# EAGLE library part USB5826 (library Microchip)
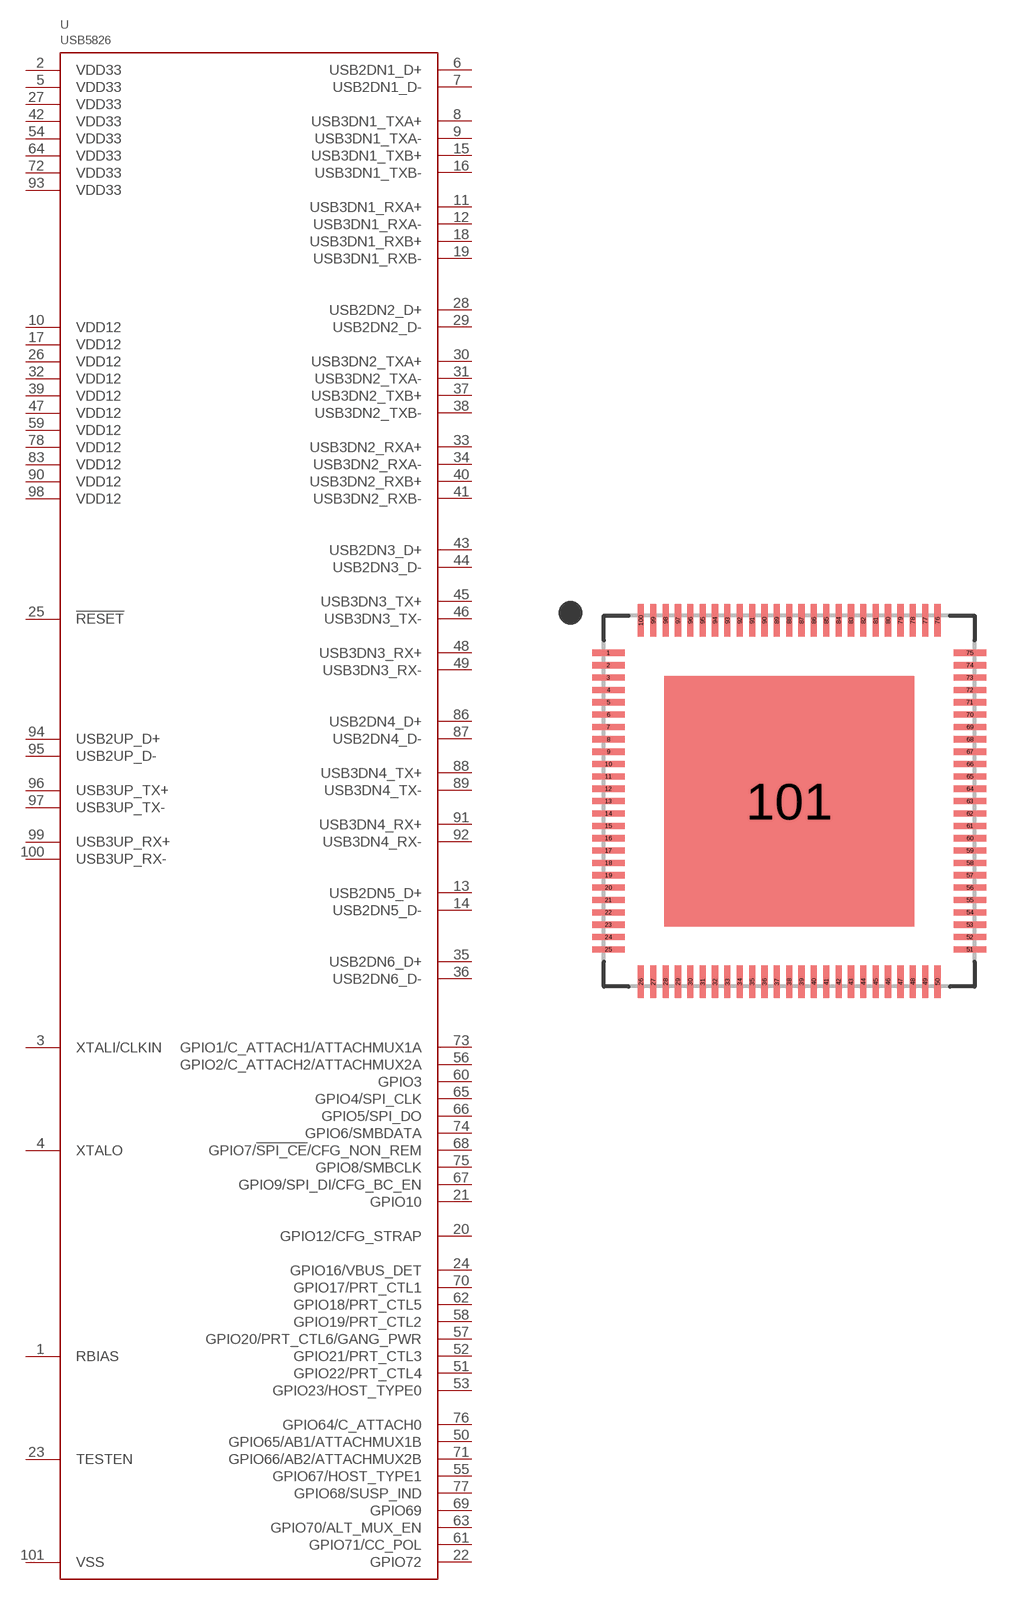
[diagram p39: symbol with the pads of VQFN100; footprint VQFN100]

Designator prefix U

## USB5826  [VQFN100]
1  RBIAS
2  VDD33  pwr
3  XTALI/CLKIN
4  XTALO
5  VDD33  pwr
6  USB2DN1_D+
7  USB2DN1_D-
8  USB3DN1_TXA+
9  USB3DN1_TXA-
10  VDD12  pwr
11  USB3DN1_RXA+
12  USB3DN1_RXA-
13  USB2DN5_D+
14  USB2DN5_D-
15  USB3DN1_TXB+
16  USB3DN1_TXB-
17  VDD12  pwr
18  USB3DN1_RXB+
19  USB3DN1_RXB-
20  GPIO12/CFG_STRAP
21  GPIO10
22  GPIO72
23  TESTEN
24  GPIO16/VBUS_DET
25  !RESET
26  VDD12  pwr
27  VDD33  pwr
28  USB2DN2_D+
29  USB2DN2_D-
30  USB3DN2_TXA+
31  USB3DN2_TXA-
32  VDD12  pwr
33  USB3DN2_RXA+
34  USB3DN2_RXA-
35  USB2DN6_D+
36  USB2DN6_D-
37  USB3DN2_TXB+
38  USB3DN2_TXB-
39  VDD12  pwr
40  USB3DN2_RXB+
41  USB3DN2_RXB-
42  VDD33  pwr
43  USB2DN3_D+
44  USB2DN3_D-
45  USB3DN3_TX+
46  USB3DN3_TX-
47  VDD12  pwr
48  USB3DN3_RX+
49  USB3DN3_RX-
50  GPIO65/AB1/ATTACHMUX1B
51  GPIO22/PRT_CTL4
52  GPIO21/PRT_CTL3
53  GPIO23/HOST_TYPE0
54  VDD33  pwr
55  GPIO67/HOST_TYPE1
56  GPIO2/C_ATTACH2/ATTACHMUX2A
57  GPIO20/PRT_CTL6/GANG_PWR
58  GPIO19/PRT_CTL2
59  VDD12  pwr
60  GPIO3
61  GPIO71/CC_POL
62  GPIO18/PRT_CTL5
63  GPIO70/ALT_MUX_EN
64  VDD33  pwr
65  GPIO4/SPI_CLK
66  GPIO5/SPI_DO
67  GPIO9/SPI_DI/CFG_BC_EN
68  GPIO7/!SPI_CE!/CFG_NON_REM
69  GPIO69
70  GPIO17/PRT_CTL1
71  GPIO66/AB2/ATTACHMUX2B
72  VDD33  pwr
73  GPIO1/C_ATTACH1/ATTACHMUX1A
74  GPIO6/SMBDATA
75  GPIO8/SMBCLK
76  GPIO64/C_ATTACH0
77  GPIO68/SUSP_IND
78  VDD12  pwr
83  VDD12  pwr
86  USB2DN4_D+
87  USB2DN4_D-
88  USB3DN4_TX+
89  USB3DN4_TX-
90  VDD12  pwr
91  USB3DN4_RX+
92  USB3DN4_RX-
93  VDD33  pwr
94  USB2UP_D+
95  USB2UP_D-
96  USB3UP_TX+
97  USB3UP_TX-
98  VDD12  pwr
99  USB3UP_RX+
100  USB3UP_RX-
101  VSS  pwr

## Footprint VQFN100 (pad centres in mm)
smd 1.05 x 0.2: 1 -5.85,4.8; 2 -5.85,4.4; 3 -5.85,4; 4 -5.85,3.6; 5 -5.85,3.2; 6 -5.85,2.8; 7 -5.85,2.4; 8 -5.85,2; 9 -5.85,1.6; 10 -5.85,1.2; 11 -5.85,0.8; 12 -5.85,0.4; 13 -5.85,0; 14 -5.85,-0.4; 15 -5.85,-0.8; 16 -5.85,-1.2; 17 -5.85,-1.6; 18 -5.85,-2; 19 -5.85,-2.4; 20 -5.85,-2.8; 21 -5.85,-3.2; 22 -5.85,-3.6; 23 -5.85,-4; 24 -5.85,-4.4; 25 -5.85,-4.8; 51 5.85,-4.8; 52 5.85,-4.4; 53 5.85,-4; 54 5.85,-3.6; 55 5.85,-3.2; 56 5.85,-2.8; 57 5.85,-2.4; 58 5.85,-2; 59 5.85,-1.6; 60 5.85,-1.2; 61 5.85,-0.8; 62 5.85,-0.4; 63 5.85,0; 64 5.85,0.4; 65 5.85,0.8; 66 5.85,1.2; 67 5.85,1.6; 68 5.85,2; 69 5.85,2.4; 70 5.85,2.8; 71 5.85,3.2; 72 5.85,3.6; 73 5.85,4; 74 5.85,4.4; 75 5.85,4.8
smd 0.2 x 1.05: 26 -4.8,-5.85; 27 -4.4,-5.85; 28 -4,-5.85; 29 -3.6,-5.85; 30 -3.2,-5.85; 31 -2.8,-5.85; 32 -2.4,-5.85; 33 -2,-5.85; 34 -1.6,-5.85; 35 -1.2,-5.85; 36 -0.8,-5.85; 37 -0.4,-5.85; 38 0,-5.85; 39 0.4,-5.85; 40 0.8,-5.85; 41 1.2,-5.85; 42 1.6,-5.85; 43 2,-5.85; 44 2.4,-5.85; 45 2.8,-5.85; 46 3.2,-5.85; 47 3.6,-5.85; 48 4,-5.85; 49 4.4,-5.85; 50 4.8,-5.85; 76 4.8,5.85; 77 4.4,5.85; 78 4,5.85; 79 3.6,5.85; 80 3.2,5.85; 81 2.8,5.85; 82 2.4,5.85; 83 2,5.85; 84 1.6,5.85; 85 1.2,5.85; 86 0.8,5.85; 87 0.4,5.85; 88 0,5.85; 89 -0.4,5.85; 90 -0.8,5.85; 91 -1.2,5.85; 92 -1.6,5.85; 93 -2,5.85; 94 -2.4,5.85; 95 -2.8,5.85; 96 -3.2,5.85; 97 -3.6,5.85; 98 -4,5.85; 99 -4.4,5.85; 100 -4.8,5.85
smd 8.1 x 8.1: 101 0,0